# EAGLE library part LM386 (library audioint)
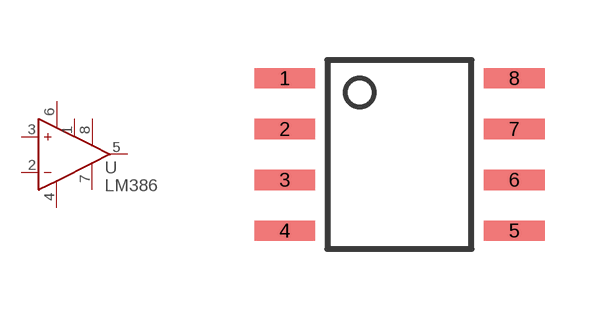
[diagram p30: symbol with the pads of 8-SOIC; footprint 8-SOIC]

Designator prefix U

## LM386SOIC  [8-SOIC]
1  P$5
2  P$2
3  P$1
4  P$6
5  P$3
6  P$8
7  P$7
8  P$4

## Footprint 8-SOIC (pad centres in mm)
smd 1.524 x 0.508: 1 -2.87,1.905; 2 -2.87,0.635; 3 -2.87,-0.635; 4 -2.87,-1.905; 5 2.87,-1.905; 6 2.87,-0.635; 7 2.87,0.635; 8 2.87,1.905